# EAGLE library part TPD2S017 (library MDB_HOME)
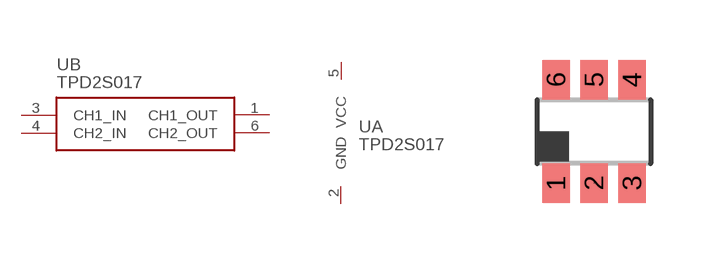
[diagram p28: symbol with the pads of DBV_R-PDSO-G6; footprint DBV_R-PDSO-G6]

Designator prefix U; gates B=TPD2S017_B A=PWR_3

## TPD2S017  [DBV_R-PDSO-G6]
1  B:CH1_OUT  out
2  A:GND  sup
3  B:CH1_IN  in
4  B:CH2_IN  in
5  A:VCC  pwr
6  B:CH2_OUT  out

## Footprint DBV_R-PDSO-G6 (pad centres in mm)
DBV (R-PDSO-G6) PLASTIC SMALL-OUTLINE PACKAGE SOT (SOT-23) - DBV Source: http://focus.ti.com/lit/ds/symlink/sn74lvc1g3157.
smd 0.69 x 0.99: 1 -0.95,-1.29; 2 0,-1.29; 3 0.95,-1.29; 4 0.95,1.3; 5 0,1.3; 6 -0.95,1.3